# EAGLE library part MC9S12XF-112 (library ELE4000_BMS)
MC9S12XF512 Source: www.freescale.com .. MC9S12XF512V1RM.pdf
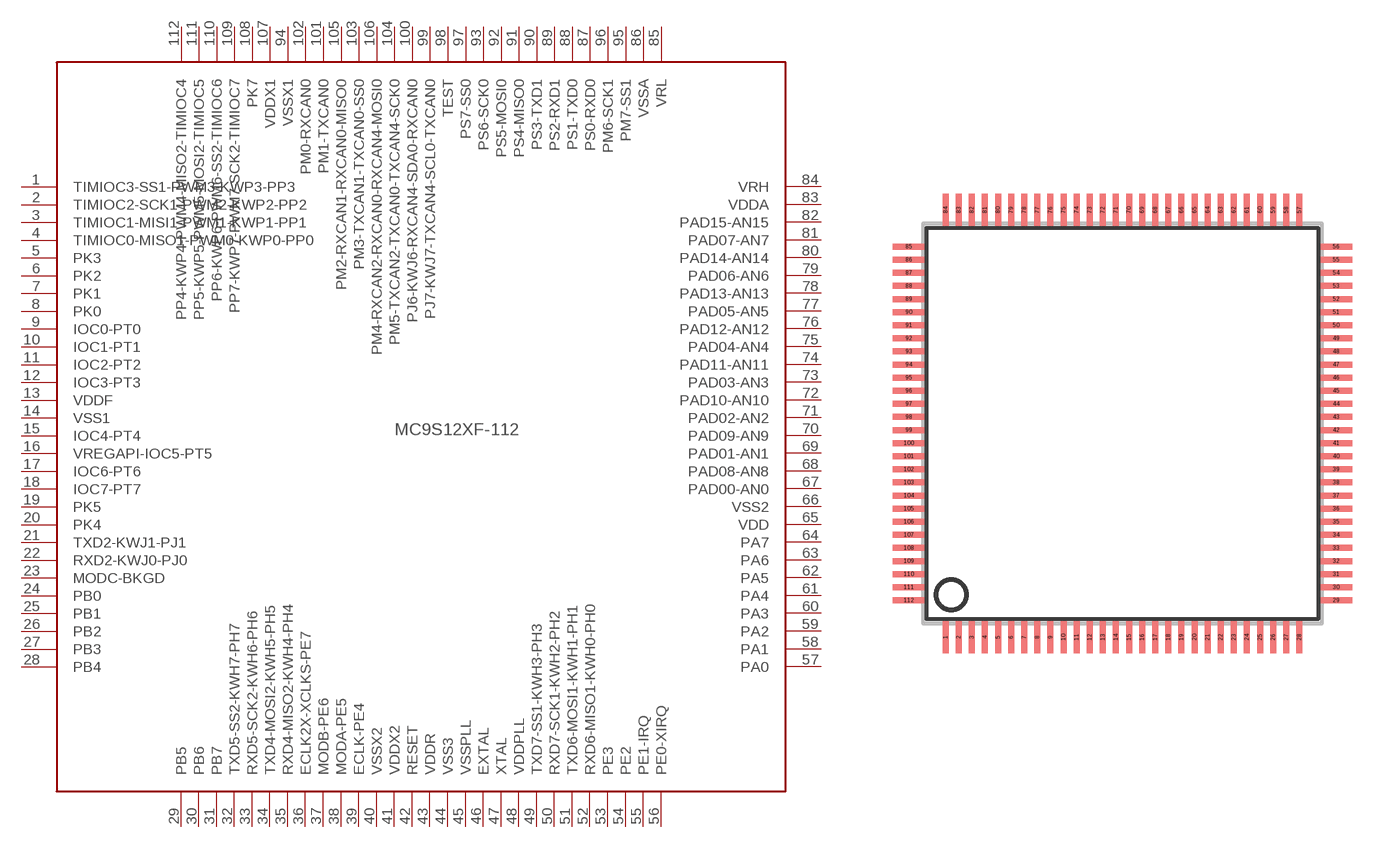
[diagram p5: symbol with the pads of SQFP-S-20X20-112; footprint SQFP-S-20X20-112]

Designator prefix IC

## MC9S12XF-112  [SQFP-S-20X20-112]
1  TIMIOC3-SS1-PWM3-KWP3-PP3
2  TIMIOC2-SCK1-PWM2-KWP2-PP2
3  TIMIOC1-MISI1-PWM1-KWP1-PP1
4  TIMIOC0-MISO1-PWM0-KWP0-PP0
5  PK3
6  PK2
7  PK1
8  PK0
9  IOC0-PT0
10  IOC1-PT1
11  IOC2-PT2
12  IOC3-PT3
13  VDDF
14  VSS1  pwr
15  IOC4-PT4  pwr
16  VREGAPI-IOC5-PT5  pwr
17  IOC6-PT6  pwr
18  IOC7-PT7
19  PK5
20  PK4
21  TXD2-KWJ1-PJ1
22  RXD2-KWJ0-PJ0
23  MODC-BKGD
24  PB0
25  PB1
26  PB2
27  PB3
28  PB4
29  PB5
30  PB6
31  PB7
32  TXD5-SS2-KWH7-PH7
33  RXD5-SCK2-KWH6-PH6
34  TXD4-MOSI2-KWH5-PH5
35  RXD4-MISO2-KWH4-PH4
36  ECLK2X-XCLKS-PE7
37  MODB-PE6
38  MODA-PE5
39  ECLK-PE4
40  VSSX2  pwr
41  VDDX2  pwr
42  RESET  pwr
43  VDDR  pwr
44  VSS3
45  VSSPLL  pwr
46  EXTAL  nc
47  XTAL  pwr
48  VDDPLL  pas
49  TXD7-SS1-KWH3-PH3  pas
50  RXD7-SCK1-KWH2-PH2  in
51  TXD6-MOSI1-KWH1-PH1
52  RXD6-MISO1-KWH0-PH0
53  PE3
54  PE2
55  PE1-IRQ  in
56  PE0-XIRQ  in
57  PA0
58  PA1
59  PA2
60  PA3
61  PA4
62  PA5
63  PA6
64  PA7
65  VDD  pwr
66  VSS2  pwr
67  PAD00-AN0
68  PAD08-AN8
69  PAD01-AN1
70  PAD09-AN9
71  PAD02-AN2
72  PAD10-AN10
73  PAD03-AN3
74  PAD11-AN11
75  PAD04-AN4
76  PAD12-AN12
77  PAD05-AN5
78  PAD13-AN13
79  PAD06-AN6
80  PAD14-AN14
81  PAD07-AN7
82  PAD15-AN15
83  VDDA  pwr
84  VRH  pwr
85  VRL  pwr
86  VSSA  pwr
87  PS0-RXD0
88  PS1-TXD0
89  PS2-RXD1
90  PS3-TXD1
91  PS4-MISO0
92  PS5-MOSI0
93  PS6-SCK0
94  VSSX1
95  PM7-SS1
96  PM6-SCK1
97  PS7-SS0
98  TEST
99  PJ7-KWJ7-TXCAN4-SCL0-TXCAN0
100  PJ6-KWJ6-RXCAN4-SDA0-RXCAN0
101  PM1-TXCAN0
102  PM0-RXCAN0
103  PM3-TXCAN1-TXCAN0-SS0  pwr
104  PM5-TXCAN2-TXCAN0-TXCAN4-SCK0  pwr
105  PM2-RXCAN1-RXCAN0-MISO0
106  PM4-RXCAN2-RXCAN0-RXCAN4-MOSI0
107  VDDX1
108  PK7
109  PP7-KWP7-PWM7-SCK2-TIMIOC7
110  PP6-KWP6-PWM6-SS2-TIMIOC6
111  PP5-KWP5-PWM5-MOSI2-TIMIOC5
112  PP4-KWP4-PWM4-MISO2-TIMIOC4

## Footprint SQFP-S-20X20-112 (pad centres in mm)
LQFP112 20x20mm 112-Pin LQFP Mechanical Dimensions (Case No. 987) Source: www.freescale.com .. MC9S12XF512V1RM.pdf
smd 0.3 x 1.6: 1 -8.775,-10.6; 2 -8.125,-10.6; 3 -7.475,-10.6; 4 -6.825,-10.6; 5 -6.175,-10.6; 6 -5.525,-10.6; 7 -4.875,-10.6; 8 -4.225,-10.6; 9 -3.575,-10.6; 10 -2.925,-10.6; 11 -2.275,-10.6; 12 -1.625,-10.6; 13 -0.975,-10.6; 14 -0.325,-10.6; 15 0.325,-10.6; 16 0.975,-10.6; 17 1.625,-10.6; 18 2.275,-10.6; 19 2.925,-10.6; 20 3.575,-10.6; 21 4.225,-10.6; 22 4.875,-10.6; 23 5.525,-10.6; 24 6.175,-10.6; 25 6.825,-10.6; 26 7.475,-10.6; 27 8.125,-10.6; 28 8.775,-10.6; 57 8.775,10.6; 58 8.125,10.6; 59 7.475,10.6; 60 6.825,10.6; 61 6.175,10.6; 62 5.525,10.6; 63 4.875,10.6; 64 4.225,10.6; 65 3.575,10.6; 66 2.925,10.6; 67 2.275,10.6; 68 1.625,10.6; 69 0.975,10.6; 70 0.325,10.6; 71 -0.325,10.6; 72 -0.975,10.6; 73 -1.625,10.6; 74 -2.275,10.6; 75 -2.925,10.6; 76 -3.575,10.6; 77 -4.225,10.6; 78 -4.875,10.6; 79 -5.525,10.6; 80 -6.175,10.6; 81 -6.825,10.6; 82 -7.475,10.6; 83 -8.125,10.6; 84 -8.775,10.6
smd 1.6 x 0.3: 29 10.6,-8.775; 30 10.6,-8.125; 31 10.6,-7.475; 32 10.6,-6.825; 33 10.6,-6.175; 34 10.6,-5.525; 35 10.6,-4.875; 36 10.6,-4.225; 37 10.6,-3.575; 38 10.6,-2.925; 39 10.6,-2.275; 40 10.6,-1.625; 41 10.6,-0.975; 42 10.6,-0.325; 43 10.6,0.325; 44 10.6,0.975; 45 10.6,1.625; 46 10.6,2.275; 47 10.6,2.925; 48 10.6,3.575; 49 10.6,4.225; 50 10.6,4.875; 51 10.6,5.525; 52 10.6,6.175; 53 10.6,6.825; 54 10.6,7.475; 55 10.6,8.125; 56 10.6,8.775; 85 -10.6,8.775; 86 -10.6,8.125; 87 -10.6,7.475; 88 -10.6,6.825; 89 -10.6,6.175; 90 -10.6,5.525; 91 -10.6,4.875; 92 -10.6,4.225; 93 -10.6,3.575; 94 -10.6,2.925; 95 -10.6,2.275; 96 -10.6,1.625; 97 -10.6,0.975; 98 -10.6,0.325; 99 -10.6,-0.325; 100 -10.6,-0.975; 101 -10.6,-1.625; 102 -10.6,-2.275; 103 -10.6,-2.925; 104 -10.6,-3.575; 105 -10.6,-4.225; 106 -10.6,-4.875; 107 -10.6,-5.525; 108 -10.6,-6.175; 109 -10.6,-6.825; 110 -10.6,-7.475; 111 -10.6,-8.125; 112 -10.6,-8.775